# EAGLE library part LM339M (library Fairchild_By_element14_Batch_1)
Quad Comparator
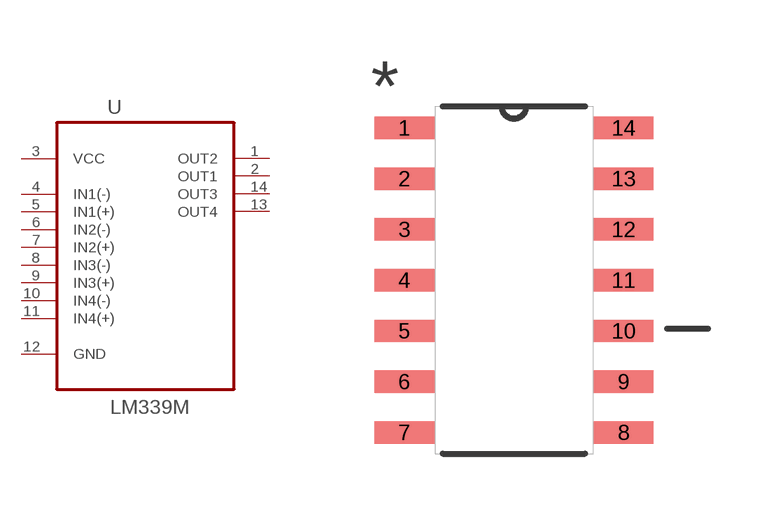
[diagram p211: symbol with the pads of SOIC127P600X180-14N; footprint SOIC127P600X180-14N]

Designator prefix U

## LM339M (MPN: LM339M; OC_FARNELL: 9487654; OC_NEWARK: 34C1077; PACKAGE: SOP-14; SUPPLIER: FAIRCHILD SEMICONDUCTOR)  [SOIC127P600X180-14N]
1  OUT2  out
2  OUT1  out
3  VCC  pwr
4  IN1(-)  in
5  IN1(+)  in
6  IN2(-)  in
7  IN2(+)  in
8  IN3(-)  in
9  IN3(+)  in
10  IN4(-)  in
11  IN4(+)  in
12  GND  pas
13  OUT4  out
14  OUT3  out

## Footprint SOIC127P600X180-14N (pad centres in mm)
smd 1.499 x 0.559: 1 -2.743,3.81; 2 -2.743,2.54; 3 -2.743,1.27; 4 -2.743,0; 5 -2.743,-1.27; 6 -2.743,-2.54; 7 -2.743,-3.81; 8 2.743,-3.81; 9 2.743,-2.54; 10 2.743,-1.27; 11 2.743,0; 12 2.743,1.27; 13 2.743,2.54; 14 2.743,3.81